# Altium schematic symbol library MRF89XAM8A.SchLib: 1 symbol
Pins are listed as number, name and electrical type; pins without a type are passive.

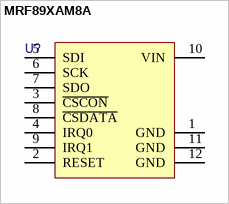
[diagram p0: symbol MRF89XAM8A]

## MRF89XAM8A
designator U?  (value not drawn)
pins: 1 GND, 2 RESET, 3 ~{CSCON}, 4 IRQ0, 5 SDI, 6 SCK, 7 SDO, 8 ~{CSDATA}, 9 IRQ1, 10 VIN, 11 GND, 12 GND